# Altium schematic symbol library STM32G474VCT3TR.SchLib: 1 symbol
Pins are listed as number, name and electrical type; pins without a type are passive.

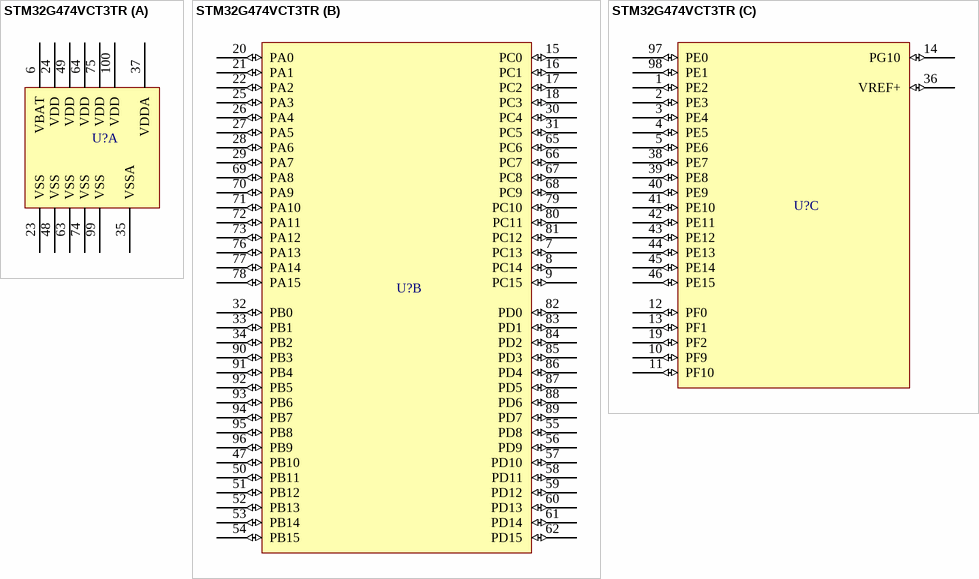
[diagram p0: symbol STM32G474VCT3TR]

## STM32G474VCT3TR
designator U?  (value not drawn)
Mainstream Arm Cortex-M4 MCU 170 MHz with 256 Kbytes of Flash memory, Math Accelerator, HR Timer, High Analog level integration
part A pins: 6 VBAT (power), 23 VSS (power), 24 VDD (power), 35 VSSA (power), 37 VDDA (power), 48 VSS (power), 49 VDD (power), 63 VSS (power), 64 VDD (power), 74 VSS (power), 75 VDD (power), 99 VSS (power), 100 VDD (power)
part B pins: 7 PC13 (io), 8 PC14 (io), 9 PC15 (io), 15 PC0 (io), 16 PC1 (io), 17 PC2 (io), 18 PC3 (io), 20 PA0 (io), 21 PA1 (io), 22 PA2 (io), 25 PA3 (io), 26 PA4 (io), 27 PA5 (io), 28 PA6 (io), 29 PA7 (io), 30 PC4 (io), 31 PC5 (io), 32 PB0 (io), 33 PB1 (io), 34 PB2 (io), 47 PB10 (io), 50 PB11 (io), 51 PB12 (io), 52 PB13 (io), 53 PB14 (io), 54 PB15 (io), 55 PD8 (io), 56 PD9 (io), 57 PD10 (io), 58 PD11 (io), 59 PD12 (io), 60 PD13 (io), 61 PD14 (io), 62 PD15 (io), 65 PC6 (io), 66 PC7 (io), 67 PC8 (io), 68 PC9 (io), 69 PA8 (io), 70 PA9 (io), 71 PA10 (io), 72 PA11 (io), 73 PA12 (io), 76 PA13 (io), 77 PA14 (io), 78 PA15 (io), 79 PC10 (io), 80 PC11 (io), 81 PC12 (io), 82 PD0 (io), 83 PD1 (io), 84 PD2 (io), 85 PD3 (io), 86 PD4 (io), 87 PD5 (io), 88 PD6 (io), 89 PD7 (io), 90 PB3 (io), 91 PB4 (io), 92 PB5 (io), 93 PB6 (io), 94 PB7 (io), 95 PB8 (io), 96 PB9 (io)
part C pins: 1 PE2 (io), 2 PE3 (io), 3 PE4 (io), 4 PE5 (io), 5 PE6 (io), 10 PF9 (io), 11 PF10 (io), 12 PF0 (io), 13 PF1 (io), 14 PG10 (io), 19 PF2 (io), 36 VREF+ (io), 38 PE7 (io), 39 PE8 (io), 40 PE9 (io), 41 PE10 (io), 42 PE11 (io), 43 PE12 (io), 44 PE13 (io), 45 PE14 (io), 46 PE15 (io), 97 PE0 (io), 98 PE1 (io)